# EAGLE library part AD8210 (library marionette)
High Voltage, BiDirectional Current Shunt Monitor Analog Devices, PN: AD8210YRZ-REEL7, Digikey No.: AD8210YRZ-REEL7CT-ND
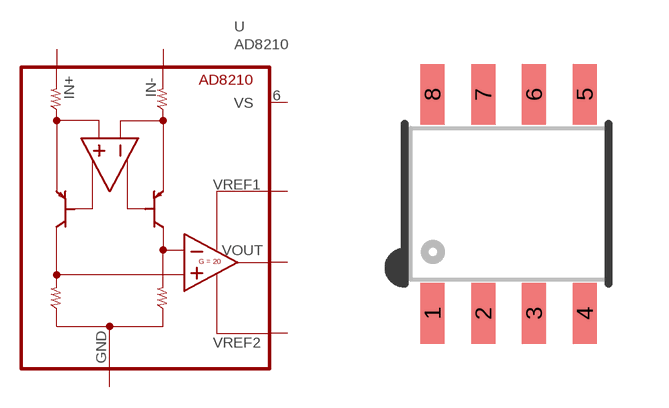
[diagram p17: symbol with the pads of SOIC-8_NARROW_BODY; footprint SOIC-8_NARROW_BODY]

Designator prefix U

## AD8210  [SOIC-8_NARROW_BODY]
1  IN-  hiz
2  GND  pwr
3  VREF2  in
5  VOUT  out
6  VS  pwr
7  VREF1  in
8  IN+  hiz

## Footprint SOIC-8_NARROW_BODY (pad centres in mm)
smd 0.6 x 1.52: 1 -1.905,-2.74; 2 -0.635,-2.74; 3 0.635,-2.74; 4 1.905,-2.74; 5 1.905,2.74; 6 0.635,2.74; 7 -0.635,2.74; 8 -1.905,2.74